# Altium schematic symbol library SCH - MCU - STM32 - ST MICROELECTRONICS STM32F303V(D-E)HX UFBGA100.SchLib: 1 symbol
Pins are listed as number, name and electrical type; pins without a type are passive.

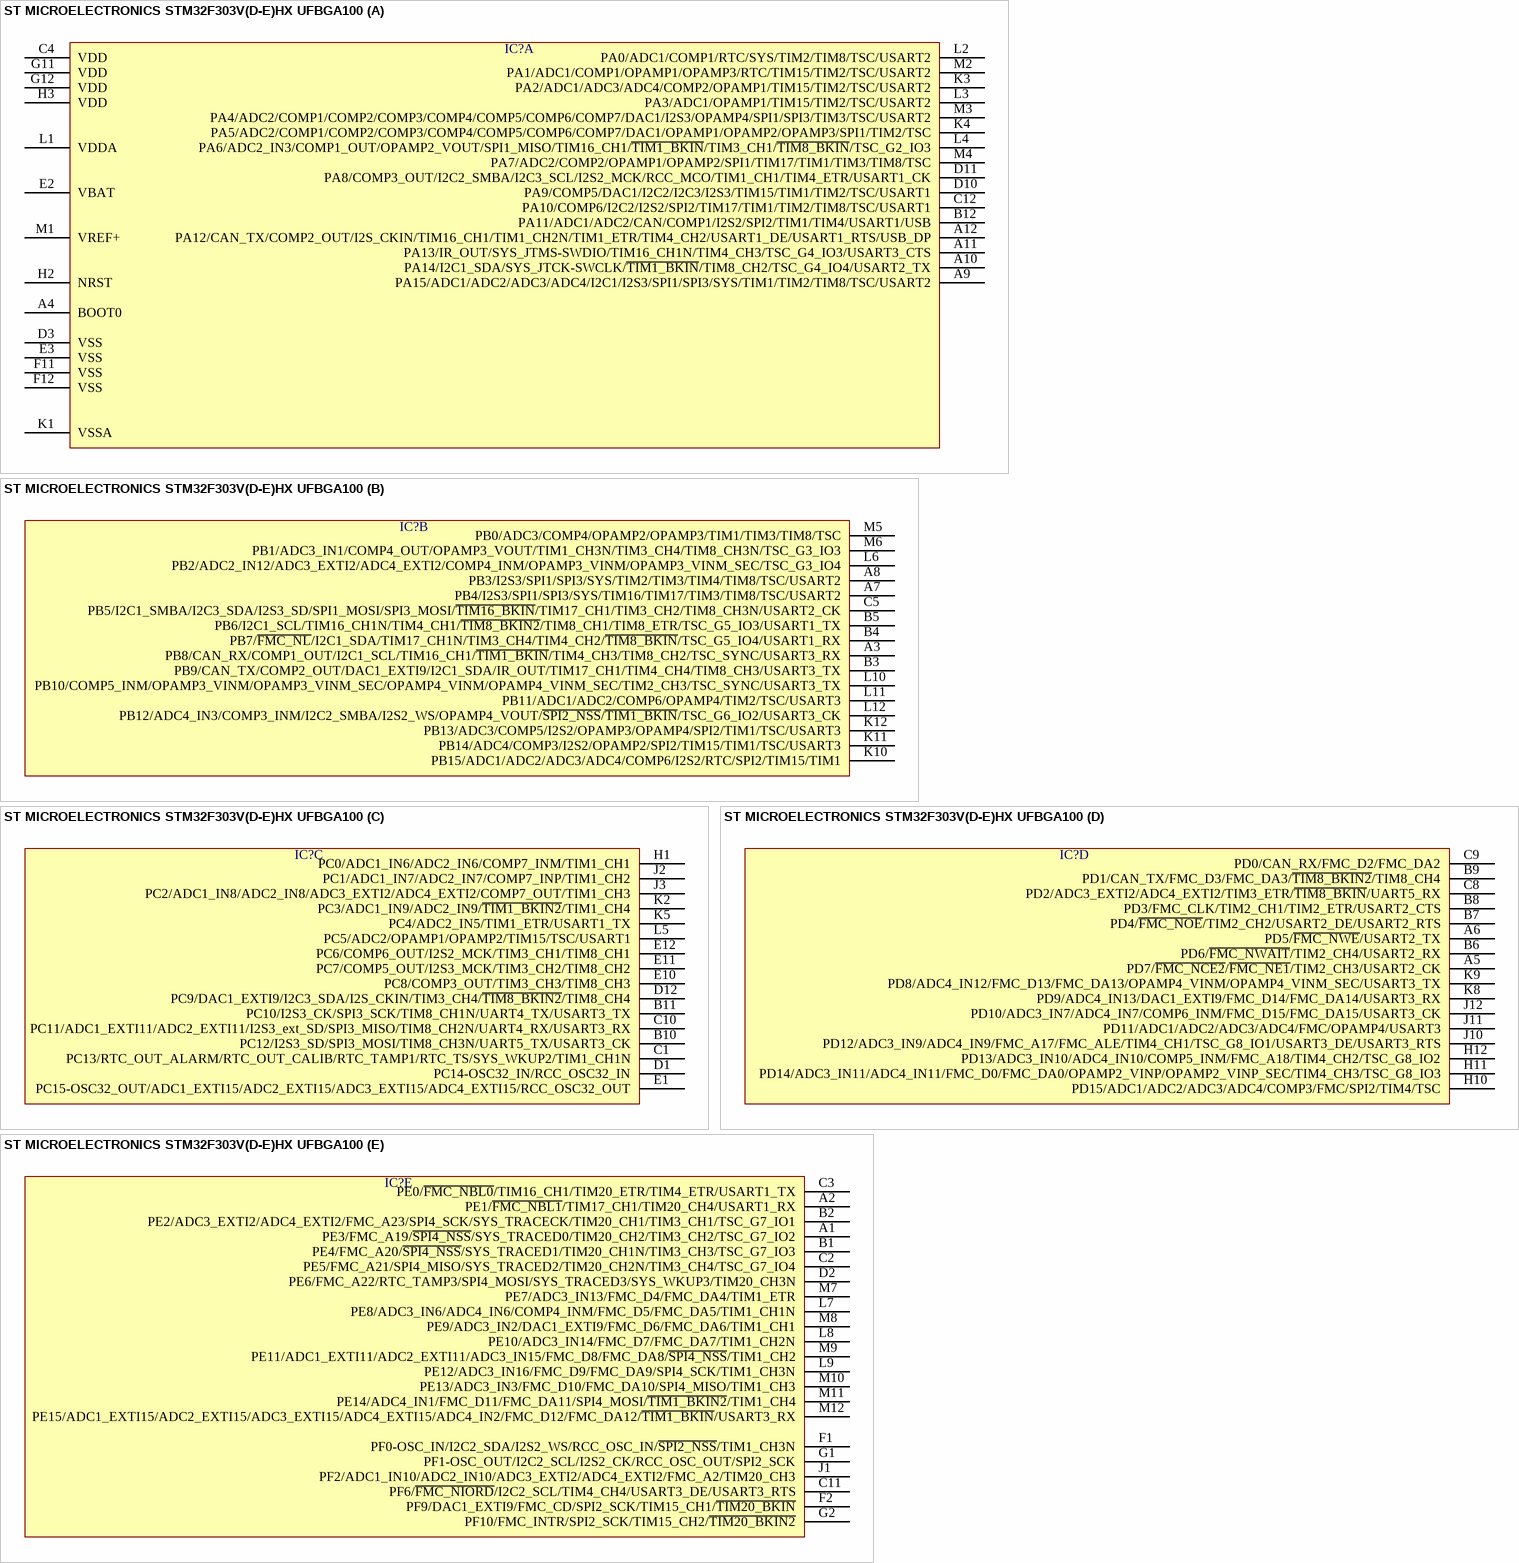
[diagram p0: symbol ST MICROELECTRONICS STM32F303V(D-E)HX UFBGA100]

## ST MICROELECTRONICS STM32F303V(D-E)HX UFBGA100
designator IC?  (value not drawn)
part A pins: A4 BOOT0, A9 PA15/ADC1/ADC2/ADC3/ADC4/I2C1/I2S3/SPI1/SPI3/SYS/TIM1/TIM2/TIM8/TSC/USART2, A10 PA14/I2C1_SDA/SYS_JTCK-SWCLK/~{TIM1_BKIN}/TIM8_CH2/TSC_G4_IO4/USART2_TX, A11 PA13/IR_OUT/SYS_JTMS-SWDIO/TIM16_CH1N/TIM4_CH3/TSC_G4_IO3/USART3_CTS, A12 PA12/CAN_TX/COMP2_OUT/I2S_CKIN/TIM16_CH1/TIM1_CH2N/TIM1_ETR/TIM4_CH2/USART1_DE/USART1_RTS/USB_DP, B12 PA11/ADC1/ADC2/CAN/COMP1/I2S2/SPI2/TIM1/TIM4/USART1/USB, C4 VDD, C12 PA10/COMP6/I2C2/I2S2/SPI2/TIM17/TIM1/TIM2/TIM8/TSC/USART1, D3 VSS, D10 PA9/COMP5/DAC1/I2C2/I2C3/I2S3/TIM15/TIM1/TIM2/TSC/USART1, D11 PA8/COMP3_OUT/I2C2_SMBA/I2C3_SCL/I2S2_MCK/RCC_MCO/TIM1_CH1/TIM4_ETR/USART1_CK, E2 VBAT, E3 VSS, F11 VSS, F12 VSS, G11 VDD, G12 VDD, H2 NRST, H3 VDD, K1 VSSA, K3 PA2/ADC1/ADC3/ADC4/COMP2/OPAMP1/TIM15/TIM2/TSC/USART2, K4 PA5/ADC2/COMP1/COMP2/COMP3/COMP4/COMP5/COMP6/COMP7/DAC1/OPAMP1/OPAMP2/OPAMP3/SPI1/TIM2/TSC, L1 VDDA, L2 PA0/ADC1/COMP1/RTC/SYS/TIM2/TIM8/TSC/USART2, L3 PA3/ADC1/OPAMP1/TIM15/TIM2/TSC/USART2, L4 PA6/ADC2_IN3/COMP1_OUT/OPAMP2_VOUT/SPI1_MISO/TIM16_CH1/~{TIM1_BKIN}/TIM3_CH1/~{TIM8_BKIN}/TSC_G2_IO3, M1 VREF+, M2 PA1/ADC1/COMP1/OPAMP1/OPAMP3/RTC/TIM15/TIM2/TSC/USART2, M3 PA4/ADC2/COMP1/COMP2/COMP3/COMP4/COMP5/COMP6/COMP7/DAC1/I2S3/OPAMP4/SPI1/SPI3/TIM3/TSC/USART2, M4 PA7/ADC2/COMP2/OPAMP1/OPAMP2/SPI1/TIM17/TIM1/TIM3/TIM8/TSC
part B pins: A3 PB8/CAN_RX/COMP1_OUT/I2C1_SCL/TIM16_CH1/~{TIM1_BKIN}/TIM4_CH3/TIM8_CH2/TSC_SYNC/USART3_RX, A7 PB4/I2S3/SPI1/SPI3/SYS/TIM16/TIM17/TIM3/TIM8/TSC/USART2, A8 PB3/I2S3/SPI1/SPI3/SYS/TIM2/TIM3/TIM4/TIM8/TSC/USART2, B3 PB9/CAN_TX/COMP2_OUT/DAC1_EXTI9/I2C1_SDA/IR_OUT/TIM17_CH1/TIM4_CH4/TIM8_CH3/USART3_TX, B4 PB7/~{FMC_NL}/I2C1_SDA/TIM17_CH1N/TIM3_CH4/TIM4_CH2/~{TIM8_BKIN}/TSC_G5_IO4/USART1_RX, B5 PB6/I2C1_SCL/TIM16_CH1N/TIM4_CH1/~{TIM8_BKIN2}/TIM8_CH1/TIM8_ETR/TSC_G5_IO3/USART1_TX, C5 PB5/I2C1_SMBA/I2C3_SDA/I2S3_SD/SPI1_MOSI/SPI3_MOSI/~{TIM16_BKIN}/TIM17_CH1/TIM3_CH2/TIM8_CH3N/USART2_CK, K10 PB15/ADC1/ADC2/ADC3/ADC4/COMP6/I2S2/RTC/SPI2/TIM15/TIM1, K11 PB14/ADC4/COMP3/I2S2/OPAMP2/SPI2/TIM15/TIM1/TSC/USART3, K12 PB13/ADC3/COMP5/I2S2/OPAMP3/OPAMP4/SPI2/TIM1/TSC/USART3, L6 PB2/ADC2_IN12/ADC3_EXTI2/ADC4_EXTI2/COMP4_INM/OPAMP3_VINM/OPAMP3_VINM_SEC/TSC_G3_IO4, L10 PB10/COMP5_INM/OPAMP3_VINM/OPAMP3_VINM_SEC/OPAMP4_VINM/OPAMP4_VINM_SEC/TIM2_CH3/TSC_SYNC/USART3_TX, L11 PB11/ADC1/ADC2/COMP6/OPAMP4/TIM2/TSC/USART3, L12 PB12/ADC4_IN3/COMP3_INM/I2C2_SMBA/I2S2_WS/OPAMP4_VOUT/~{SPI2_NSS}/~{TIM1_BKIN}/TSC_G6_IO2/USART3_CK, M5 PB0/ADC3/COMP4/OPAMP2/OPAMP3/TIM1/TIM3/TIM8/TSC, M6 PB1/ADC3_IN1/COMP4_OUT/OPAMP3_VOUT/TIM1_CH3N/TIM3_CH4/TIM8_CH3N/TSC_G3_IO3
part C pins: B10 PC12/I2S3_SD/SPI3_MOSI/TIM8_CH3N/UART5_TX/USART3_CK, B11 PC10/I2S3_CK/SPI3_SCK/TIM8_CH1N/UART4_TX/USART3_TX, C1 PC13/RTC_OUT_ALARM/RTC_OUT_CALIB/RTC_TAMP1/RTC_TS/SYS_WKUP2/TIM1_CH1N, C10 PC11/ADC1_EXTI11/ADC2_EXTI11/I2S3_ext_SD/SPI3_MISO/TIM8_CH2N/UART4_RX/USART3_RX, D1 PC14-OSC32_IN/RCC_OSC32_IN, D12 PC9/DAC1_EXTI9/I2C3_SDA/I2S_CKIN/TIM3_CH4/~{TIM8_BKIN2}/TIM8_CH4, E1 PC15-OSC32_OUT/ADC1_EXTI15/ADC2_EXTI15/ADC3_EXTI15/ADC4_EXTI15/RCC_OSC32_OUT, E10 PC8/COMP3_OUT/TIM3_CH3/TIM8_CH3, E11 PC7/COMP5_OUT/I2S3_MCK/TIM3_CH2/TIM8_CH2, E12 PC6/COMP6_OUT/I2S2_MCK/TIM3_CH1/TIM8_CH1, H1 PC0/ADC1_IN6/ADC2_IN6/COMP7_INM/TIM1_CH1, J2 PC1/ADC1_IN7/ADC2_IN7/COMP7_INP/TIM1_CH2, J3 PC2/ADC1_IN8/ADC2_IN8/ADC3_EXTI2/ADC4_EXTI2/COMP7_OUT/TIM1_CH3, K2 PC3/ADC1_IN9/ADC2_IN9/~{TIM1_BKIN2}/TIM1_CH4, K5 PC4/ADC2_IN5/TIM1_ETR/USART1_TX, L5 PC5/ADC2/OPAMP1/OPAMP2/TIM15/TSC/USART1
part D pins: A5 PD7/~{FMC_NCE2}/~{FMC_NE1}/TIM2_CH3/USART2_CK, A6 PD5/~{FMC_NWE}/USART2_TX, B6 PD6/~{FMC_NWAIT}/TIM2_CH4/USART2_RX, B7 PD4/~{FMC_NOE}/TIM2_CH2/USART2_DE/USART2_RTS, B8 PD3/FMC_CLK/TIM2_CH1/TIM2_ETR/USART2_CTS, B9 PD1/CAN_TX/FMC_D3/FMC_DA3/~{TIM8_BKIN2}/TIM8_CH4, C8 PD2/ADC3_EXTI2/ADC4_EXTI2/TIM3_ETR/~{TIM8_BKIN}/UART5_RX, C9 PD0/CAN_RX/FMC_D2/FMC_DA2, H10 PD15/ADC1/ADC2/ADC3/ADC4/COMP3/FMC/SPI2/TIM4/TSC, H11 PD14/ADC3_IN11/ADC4_IN11/FMC_D0/FMC_DA0/OPAMP2_VINP/OPAMP2_VINP_SEC/TIM4_CH3/TSC_G8_IO3, H12 PD13/ADC3_IN10/ADC4_IN10/COMP5_INM/FMC_A18/TIM4_CH2/TSC_G8_IO2, J10 PD12/ADC3_IN9/ADC4_IN9/FMC_A17/FMC_ALE/TIM4_CH1/TSC_G8_IO1/USART3_DE/USART3_RTS, J11 PD11/ADC1/ADC2/ADC3/ADC4/FMC/OPAMP4/USART3, J12 PD10/ADC3_IN7/ADC4_IN7/COMP6_INM/FMC_D15/FMC_DA15/USART3_CK, K8 PD9/ADC4_IN13/DAC1_EXTI9/FMC_D14/FMC_DA14/USART3_RX, K9 PD8/ADC4_IN12/FMC_D13/FMC_DA13/OPAMP4_VINM/OPAMP4_VINM_SEC/USART3_TX
part E pins: A1 PE3/FMC_A19/~{SPI4_NSS}/SYS_TRACED0/TIM20_CH2/TIM3_CH2/TSC_G7_IO2, A2 PE1/~{FMC_NBL1}/TIM17_CH1/TIM20_CH4/USART1_RX, B1 PE4/FMC_A20/~{SPI4_NSS}/SYS_TRACED1/TIM20_CH1N/TIM3_CH3/TSC_G7_IO3, B2 PE2/ADC3_EXTI2/ADC4_EXTI2/FMC_A23/SPI4_SCK/SYS_TRACECK/TIM20_CH1/TIM3_CH1/TSC_G7_IO1, C2 PE5/FMC_A21/SPI4_MISO/SYS_TRACED2/TIM20_CH2N/TIM3_CH4/TSC_G7_IO4, C3 PE0/~{FMC_NBL0}/TIM16_CH1/TIM20_ETR/TIM4_ETR/USART1_TX, C11 PF6/~{FMC_NIORD}/I2C2_SCL/TIM4_CH4/USART3_DE/USART3_RTS, D2 PE6/FMC_A22/RTC_TAMP3/SPI4_MOSI/SYS_TRACED3/SYS_WKUP3/TIM20_CH3N, F1 PF0-OSC_IN/I2C2_SDA/I2S2_WS/RCC_OSC_IN/~{SPI2_NSS}/TIM1_CH3N, F2 PF9/DAC1_EXTI9/FMC_CD/SPI2_SCK/TIM15_CH1/~{TIM20_BKIN}, G1 PF1-OSC_OUT/I2C2_SCL/I2S2_CK/RCC_OSC_OUT/SPI2_SCK, G2 PF10/FMC_INTR/SPI2_SCK/TIM15_CH2/~{TIM20_BKIN2}, J1 PF2/ADC1_IN10/ADC2_IN10/ADC3_EXTI2/ADC4_EXTI2/FMC_A2/TIM20_CH3, L7 PE8/ADC3_IN6/ADC4_IN6/COMP4_INM/FMC_D5/FMC_DA5/TIM1_CH1N, L8 PE10/ADC3_IN14/FMC_D7/FMC_DA7/TIM1_CH2N, L9 PE12/ADC3_IN16/FMC_D9/FMC_DA9/SPI4_SCK/TIM1_CH3N, M7 PE7/ADC3_IN13/FMC_D4/FMC_DA4/TIM1_ETR, M8 PE9/ADC3_IN2/DAC1_EXTI9/FMC_D6/FMC_DA6/TIM1_CH1, M9 PE11/ADC1_EXTI11/ADC2_EXTI11/ADC3_IN15/FMC_D8/FMC_DA8/~{SPI4_NSS}/TIM1_CH2, M10 PE13/ADC3_IN3/FMC_D10/FMC_DA10/SPI4_MISO/TIM1_CH3, M11 PE14/ADC4_IN1/FMC_D11/FMC_DA11/SPI4_MOSI/~{TIM1_BKIN2}/TIM1_CH4, M12 PE15/ADC1_EXTI15/ADC2_EXTI15/ADC3_EXTI15/ADC4_EXTI15/ADC4_IN2/FMC_D12/FMC_DA12/~{TIM1_BKIN}/USART3_RX